# Altium footprint library VERTICAL_SLIDE_SWITCH_SS12F23.PcbLib: 1 footprints
Each footprint in its own frame and in the unit in brackets; x right, y up, seen from the top. Pads: shape width x height; smd on the part's side, far side on the other; paste and mask are expansions set on the pad; w line width, h text height; cw(c..) or ccw(c..) is an arc to the next point about the centre after c.
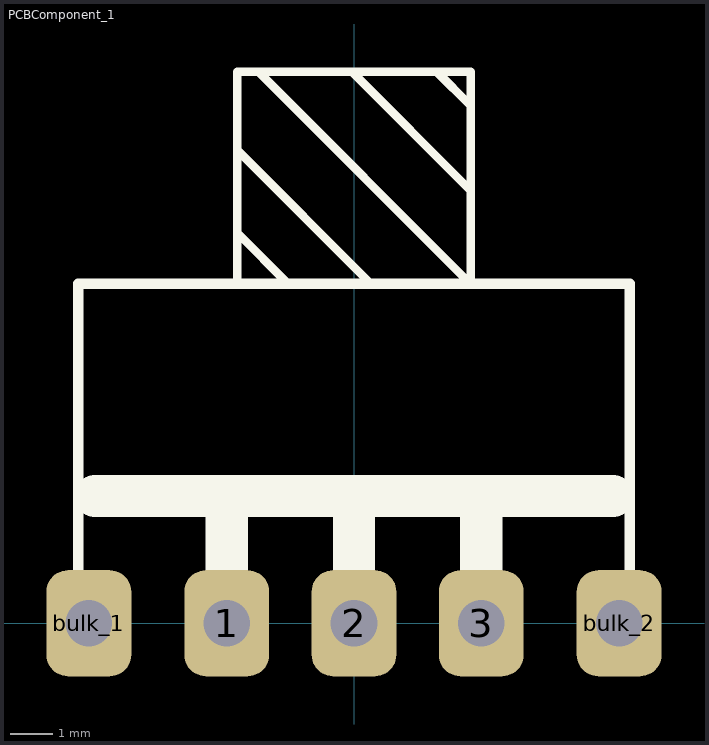
[diagram p0: the footprint, top view; thin cyan lines are the x and y axes]

## PCBComponent_1 [mm]
pads (5):
  rrect50% 2x2.5 hole 1.1: 1(-3,0) 2(0,0) 3(3,0) bulk_1(-6.25,0) bulk_2(6.25,0)
Top Overlay:
  lines w0.2: -2.75,8 -2.75,13 -2.25,13 2.75,8 2.75,13 -2.6,13 ; -2.75,9.2 -1.55,8 -1.5,8 ; -2.75,11.3 -2.75,11.25 -2.75,11.15 0.4,8 ; -0.4,13 -0.05,13 2.75,10.2 ; 1.9,13 1.95,13 2.75,12.2
  lines w0.25: -6.5,0 -6.5,8 6.5,8 6.5,0
  lines w1: -6.1,3 6.1,3 ; -3,0 -3,2.738 ; 0,0 0,2.771 ; 3,0 3,2.769
3D body: height 6, standoff -3.1, extent -6.533,-0.6 6.467,12.3